# Altium schematic symbol library WE-TVSP.SchLib: 358 symbols (part 2 of 7)
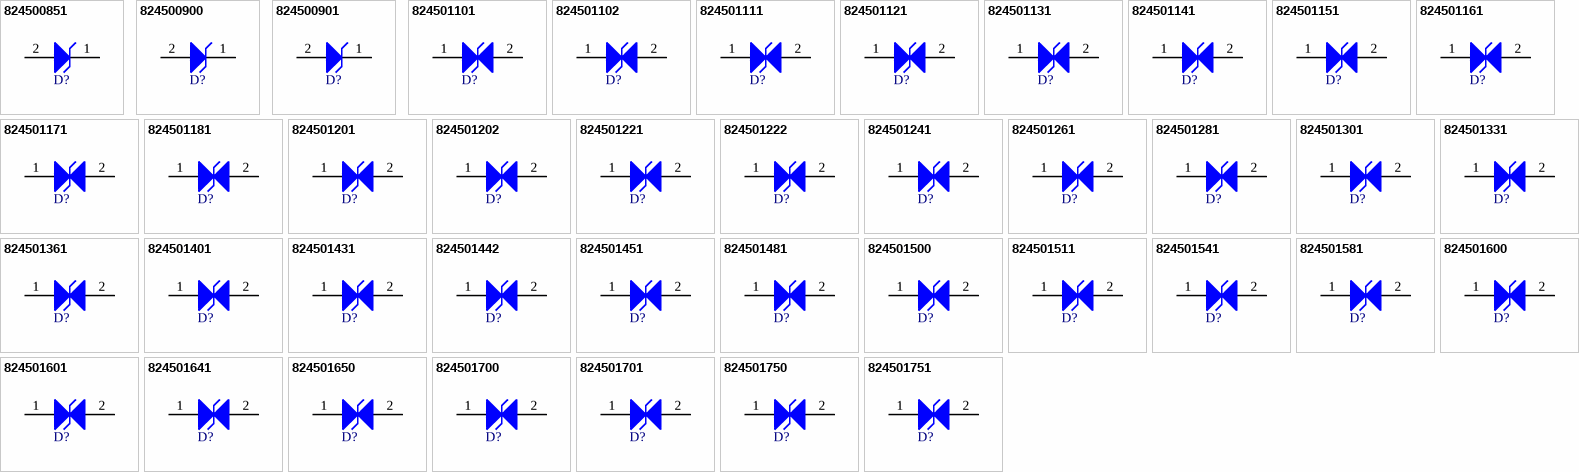
[diagram p9: symbols 824500851 to 824501751]

## 824501202
designator D?, comment 400W, 200VDC  (value not drawn)
WE-TVSP SMT Power TVS Diode, DO-214AC, Bidirectional, 400W, 200VDC; Manufacturer Part Number: 824501202; Manufacturer: Wurth Elektronik; Clamping Voltage: 324V; Operating Voltage (DC): 200V; (Reverse) Breakdown Voltage: 235.5V; (Reverse) Peak Pulse Current: 1.2A; ComponentLink1Description: Website Link; ComponentLink1URL: https://www.we-online.com/redexpert/article/824501202?ad; ComponentLink2Description: Datasheet Link; ComponentLink2URL: https://www.we-online.com/redexpert/spec/824501202?ad; Category: Surge Protection; Match Code: WE-TVSP; Mount: Surface Mount; Operating Temperature Max: 150°C; Operating Temperature Min: -65°C; Packaging: Tape and Reel; Case/Size Code: DO-214AC; Length: 4.24mm; Width: 2.67mm; Height: 2.25mm; Polarity: Bidirectional; Power Dissipation: 400W
footprint WE-TVSP_DO-214AC_Bidirectional
pins: 1, 2

## 824501221
designator D?, comment 400W, 22VDC  (value not drawn)
WE-TVSP SMT Power TVS Diode, DO-214AC, Bidirectional, 400W, 22VDC; Manufacturer Part Number: 824501221; Manufacturer: Wurth Elektronik; Clamping Voltage: 35.5V; Operating Voltage (DC): 22V; (Reverse) Breakdown Voltage: 25.65V; (Reverse) Peak Pulse Current: 11.3A; ComponentLink1Description: Website Link; ComponentLink1URL: https://www.we-online.com/redexpert/article/824501221?ad; ComponentLink2Description: Datasheet Link; ComponentLink2URL: https://www.we-online.com/redexpert/spec/824501221?ad; Category: Surge Protection; Match Code: WE-TVSP; Mount: Surface Mount; Operating Temperature Max: 150°C; Operating Temperature Min: -65°C; Packaging: Tape and Reel; Case/Size Code: DO-214AC; Length: 4.24mm; Width: 2.67mm; Height: 2.25mm; Polarity: Bidirectional; Power Dissipation: 400W
footprint WE-TVSP_DO-214AC_Bidirectional
pins: 1, 2

## 824501222
designator D?, comment 400W, 220VDC  (value not drawn)
WE-TVSP SMT Power TVS Diode, DO-214AC, Bidirectional, 400W, 220VDC; Manufacturer Part Number: 824501222; Manufacturer: Wurth Elektronik; Clamping Voltage: 356V; Operating Voltage (DC): 220V; (Reverse) Breakdown Voltage: 259V; (Reverse) Peak Pulse Current: 1.1A; ComponentLink1Description: Website Link; ComponentLink1URL: https://www.we-online.com/redexpert/article/824501222?ad; ComponentLink2Description: Datasheet Link; ComponentLink2URL: https://www.we-online.com/redexpert/spec/824501222?ad; Category: Surge Protection; Match Code: WE-TVSP; Mount: Surface Mount; Operating Temperature Max: 150°C; Operating Temperature Min: -65°C; Packaging: Tape and Reel; Case/Size Code: DO-214AC; Length: 4.24mm; Width: 2.67mm; Height: 2.25mm; Polarity: Bidirectional; Power Dissipation: 400W
footprint WE-TVSP_DO-214AC_Bidirectional
pins: 1, 2

## 824501241
designator D?, comment 400W, 24VDC  (value not drawn)
WE-TVSP SMT Power TVS Diode, DO-214AC, Bidirectional, 400W, 24VDC; Manufacturer Part Number: 824501241; Manufacturer: Wurth Elektronik; Clamping Voltage: 38.9V; Operating Voltage (DC): 24V; (Reverse) Breakdown Voltage: 28.1V; (Reverse) Peak Pulse Current: 10.3A; ComponentLink1Description: Website Link; ComponentLink1URL: https://www.we-online.com/redexpert/article/824501241?ad; ComponentLink2Description: Datasheet Link; ComponentLink2URL: https://www.we-online.com/redexpert/spec/824501241?ad; Category: Surge Protection; Match Code: WE-TVSP; Mount: Surface Mount; Operating Temperature Max: 150°C; Operating Temperature Min: -65°C; Packaging: Tape and Reel; Case/Size Code: DO-214AC; Length: 4.24mm; Width: 2.67mm; Height: 2.25mm; Polarity: Bidirectional; Power Dissipation: 400W
footprint WE-TVSP_DO-214AC_Bidirectional
pins: 1, 2

## 824501261
designator D?, comment 400W, 26VDC  (value not drawn)
WE-TVSP SMT Power TVS Diode, DO-214AC, Bidirectional, 400W, 26VDC; Manufacturer Part Number: 824501261; Manufacturer: Wurth Elektronik; Clamping Voltage: 42.1V; Operating Voltage (DC): 26V; (Reverse) Breakdown Voltage: 30.4V; (Reverse) Peak Pulse Current: 9.5A; ComponentLink1Description: Website Link; ComponentLink1URL: https://www.we-online.com/redexpert/article/824501261?ad; ComponentLink2Description: Datasheet Link; ComponentLink2URL: https://www.we-online.com/redexpert/spec/824501261?ad; Category: Surge Protection; Match Code: WE-TVSP; Mount: Surface Mount; Operating Temperature Max: 150°C; Operating Temperature Min: -65°C; Packaging: Tape and Reel; Case/Size Code: DO-214AC; Length: 4.24mm; Width: 2.67mm; Height: 2.25mm; Polarity: Bidirectional; Power Dissipation: 400W
footprint WE-TVSP_DO-214AC_Bidirectional
pins: 1, 2

## 824501281
designator D?, comment 400W, 28VDC  (value not drawn)
WE-TVSP SMT Power TVS Diode, DO-214AC, Bidirectional, 400W, 28VDC; Manufacturer Part Number: 824501281; Manufacturer: Wurth Elektronik; Clamping Voltage: 45.4V; Operating Voltage (DC): 28V; (Reverse) Breakdown Voltage: 32.75V; (Reverse) Peak Pulse Current: 8.8A; ComponentLink1Description: Website Link; ComponentLink1URL: https://www.we-online.com/redexpert/article/824501281?ad; ComponentLink2Description: Datasheet Link; ComponentLink2URL: https://www.we-online.com/redexpert/spec/824501281?ad; Category: Surge Protection; Match Code: WE-TVSP; Mount: Surface Mount; Operating Temperature Max: 150°C; Operating Temperature Min: -65°C; Packaging: Tape and Reel; Case/Size Code: DO-214AC; Length: 4.24mm; Width: 2.67mm; Height: 2.25mm; Polarity: Bidirectional; Power Dissipation: 400W
footprint WE-TVSP_DO-214AC_Bidirectional
pins: 1, 2

## 824501301
designator D?, comment 400W, 30VDC  (value not drawn)
WE-TVSP SMT Power TVS Diode, DO-214AC, Bidirectional, 400W, 30VDC; Manufacturer Part Number: 824501301; Manufacturer: Wurth Elektronik; Clamping Voltage: 48.4V; Operating Voltage (DC): 30V; (Reverse) Breakdown Voltage: 35.05V; (Reverse) Peak Pulse Current: 8.3A; ComponentLink1Description: Website Link; ComponentLink1URL: https://www.we-online.com/redexpert/article/824501301?ad; ComponentLink2Description: Datasheet Link; ComponentLink2URL: https://www.we-online.com/redexpert/spec/824501301?ad; Category: Surge Protection; Match Code: WE-TVSP; Mount: Surface Mount; Operating Temperature Max: 150°C; Operating Temperature Min: -65°C; Packaging: Tape and Reel; Case/Size Code: DO-214AC; Length: 4.24mm; Width: 2.67mm; Height: 2.25mm; Polarity: Bidirectional; Power Dissipation: 400W
footprint WE-TVSP_DO-214AC_Bidirectional
pins: 1, 2

## 824501331
designator D?, comment 400W, 33VDC  (value not drawn)
WE-TVSP SMT Power TVS Diode, DO-214AC, Bidirectional, 400W, 33VDC; Manufacturer Part Number: 824501331; Manufacturer: Wurth Elektronik; Clamping Voltage: 53.3V; Operating Voltage (DC): 33V; (Reverse) Breakdown Voltage: 38.65V; (Reverse) Peak Pulse Current: 7.5A; ComponentLink1Description: Website Link; ComponentLink1URL: https://www.we-online.com/redexpert/article/824501331?ad; ComponentLink2Description: Datasheet Link; ComponentLink2URL: https://www.we-online.com/redexpert/spec/824501331?ad; Category: Surge Protection; Match Code: WE-TVSP; Mount: Surface Mount; Operating Temperature Max: 150°C; Operating Temperature Min: -65°C; Packaging: Tape and Reel; Case/Size Code: DO-214AC; Length: 4.24mm; Width: 2.67mm; Height: 2.25mm; Polarity: Bidirectional; Power Dissipation: 400W
footprint WE-TVSP_DO-214AC_Bidirectional
pins: 1, 2

## 824501361
designator D?, comment 400W, 36VDC  (value not drawn)
WE-TVSP SMT Power TVS Diode, DO-214AC, Bidirectional, 400W, 36VDC; Manufacturer Part Number: 824501361; Manufacturer: Wurth Elektronik; Clamping Voltage: 58.1V; Operating Voltage (DC): 36V; (Reverse) Breakdown Voltage: 42.1V; (Reverse) Peak Pulse Current: 6.9A; ComponentLink1Description: Website Link; ComponentLink1URL: https://www.we-online.com/redexpert/article/824501361?ad; ComponentLink2Description: Datasheet Link; ComponentLink2URL: https://www.we-online.com/redexpert/spec/824501361?ad; Category: Surge Protection; Match Code: WE-TVSP; Mount: Surface Mount; Operating Temperature Max: 150°C; Operating Temperature Min: -65°C; Packaging: Tape and Reel; Case/Size Code: DO-214AC; Length: 4.24mm; Width: 2.67mm; Height: 2.25mm; Polarity: Bidirectional; Power Dissipation: 400W
footprint WE-TVSP_DO-214AC_Bidirectional
pins: 1, 2

## 824501401
designator D?, comment 400W, 40VDC  (value not drawn)
WE-TVSP SMT Power TVS Diode, DO-214AC, Bidirectional, 400W, 40VDC; Manufacturer Part Number: 824501401; Manufacturer: Wurth Elektronik; Clamping Voltage: 64.5V; Operating Voltage (DC): 40V; (Reverse) Breakdown Voltage: 46.75V; (Reverse) Peak Pulse Current: 6.2A; ComponentLink1Description: Website Link; ComponentLink1URL: https://www.we-online.com/redexpert/article/824501401?ad; ComponentLink2Description: Datasheet Link; ComponentLink2URL: https://www.we-online.com/redexpert/spec/824501401?ad; Category: Surge Protection; Match Code: WE-TVSP; Mount: Surface Mount; Operating Temperature Max: 150°C; Operating Temperature Min: -65°C; Packaging: Tape and Reel; Case/Size Code: DO-214AC; Length: 4.24mm; Width: 2.67mm; Height: 2.25mm; Polarity: Bidirectional; Power Dissipation: 400W
footprint WE-TVSP_DO-214AC_Bidirectional
pins: 1, 2

## 824501431
designator D?, comment 400W, 43VDC  (value not drawn)
WE-TVSP SMT Power TVS Diode, DO-214AC, Bidirectional, 400W, 43VDC; Manufacturer Part Number: 824501431; Manufacturer: Wurth Elektronik; Clamping Voltage: 69.4V; Operating Voltage (DC): 43V; (Reverse) Breakdown Voltage: 50.3V; (Reverse) Peak Pulse Current: 5.8A; ComponentLink1Description: Website Link; ComponentLink1URL: https://www.we-online.com/redexpert/article/824501431?ad; ComponentLink2Description: Datasheet Link; ComponentLink2URL: https://www.we-online.com/redexpert/spec/824501431?ad; Category: Surge Protection; Match Code: WE-TVSP; Mount: Surface Mount; Operating Temperature Max: 150°C; Operating Temperature Min: -65°C; Packaging: Tape and Reel; Case/Size Code: DO-214AC; Length: 4.24mm; Width: 2.67mm; Height: 2.25mm; Polarity: Bidirectional; Power Dissipation: 400W
footprint WE-TVSP_DO-214AC_Bidirectional
pins: 1, 2

## 824501442
designator D?, comment 400W, 440VDC  (value not drawn)
WE-TVSP SMT Power TVS Diode, DO-214AC, Bidirectional, 400W, 440VDC; Manufacturer Part Number: 824501442; Manufacturer: Wurth Elektronik; Clamping Voltage: 713V; Operating Voltage (DC): 440V; (Reverse) Breakdown Voltage: 517.5V; (Reverse) Peak Pulse Current: 0.6A; ComponentLink1Description: Website Link; ComponentLink1URL: https://www.we-online.com/redexpert/article/824501442?ad; ComponentLink2Description: Datasheet Link; ComponentLink2URL: https://www.we-online.com/redexpert/spec/824501442?ad; Category: Surge Protection; Match Code: WE-TVSP; Mount: Surface Mount; Operating Temperature Max: 150°C; Operating Temperature Min: -65°C; Packaging: Tape and Reel; Case/Size Code: DO-214AC; Length: 4.24mm; Width: 2.67mm; Height: 2.25mm; Polarity: Bidirectional; Power Dissipation: 400W
footprint WE-TVSP_DO-214AC_Bidirectional
pins: 1, 2

## 824501451
designator D?, comment 400W, 45VDC  (value not drawn)
WE-TVSP SMT Power TVS Diode, DO-214AC, Bidirectional, 400W, 45VDC; Manufacturer Part Number: 824501451; Manufacturer: Wurth Elektronik; Clamping Voltage: 72.7V; Operating Voltage (DC): 45V; (Reverse) Breakdown Voltage: 52.65V; (Reverse) Peak Pulse Current: 5.5A; ComponentLink1Description: Website Link; ComponentLink1URL: https://www.we-online.com/redexpert/article/824501451?ad; ComponentLink2Description: Datasheet Link; ComponentLink2URL: https://www.we-online.com/redexpert/spec/824501451?ad; Category: Surge Protection; Match Code: WE-TVSP; Mount: Surface Mount; Operating Temperature Max: 150°C; Operating Temperature Min: -65°C; Packaging: Tape and Reel; Case/Size Code: DO-214AC; Length: 4.24mm; Width: 2.67mm; Height: 2.25mm; Polarity: Bidirectional; Power Dissipation: 400W
footprint WE-TVSP_DO-214AC_Bidirectional
pins: 1, 2

## 824501481
designator D?, comment 400W, 48VDC  (value not drawn)
WE-TVSP SMT Power TVS Diode, DO-214AC, Bidirectional, 400W, 48VDC; Manufacturer Part Number: 824501481; Manufacturer: Wurth Elektronik; Clamping Voltage: 77.4V; Operating Voltage (DC): 48V; (Reverse) Breakdown Voltage: 56.1V; (Reverse) Peak Pulse Current: 5.2A; ComponentLink1Description: Website Link; ComponentLink1URL: https://www.we-online.com/redexpert/article/824501481?ad; ComponentLink2Description: Datasheet Link; ComponentLink2URL: https://www.we-online.com/redexpert/spec/824501481?ad; Category: Surge Protection; Match Code: WE-TVSP; Mount: Surface Mount; Operating Temperature Max: 150°C; Operating Temperature Min: -65°C; Packaging: Tape and Reel; Case/Size Code: DO-214AC; Length: 4.24mm; Width: 2.67mm; Height: 2.25mm; Polarity: Bidirectional; Power Dissipation: 400W
footprint WE-TVSP_DO-214AC_Bidirectional
pins: 1, 2

## 824501500
designator D?, comment 400W, 5VDC  (value not drawn)
WE-TVSP SMT Power TVS Diode, DO-214AC, Bidirectional, 400W, 5VDC; Manufacturer Part Number: 824501500; Manufacturer: Wurth Elektronik; Clamping Voltage: 9.2V; Operating Voltage (DC): 5V; (Reverse) Breakdown Voltage: 6.7V; (Reverse) Peak Pulse Current: 43.5A; ComponentLink1Description: Website Link; ComponentLink1URL: https://www.we-online.com/redexpert/article/824501500?ad; ComponentLink2Description: Datasheet Link; ComponentLink2URL: https://www.we-online.com/redexpert/spec/824501500?ad; Category: Surge Protection; Match Code: WE-TVSP; Mount: Surface Mount; Operating Temperature Max: 150°C; Operating Temperature Min: -65°C; Packaging: Tape and Reel; Case/Size Code: DO-214AC; Length: 4.24mm; Width: 2.67mm; Height: 2.25mm; Polarity: Bidirectional; Power Dissipation: 400W
footprint WE-TVSP_DO-214AC_Bidirectional
pins: 1, 2

## 824501511
designator D?, comment 400W, 51VDC  (value not drawn)
WE-TVSP SMT Power TVS Diode, DO-214AC, Bidirectional, 400W, 51VDC; Manufacturer Part Number: 824501511; Manufacturer: Wurth Elektronik; Clamping Voltage: 82.4V; Operating Voltage (DC): 51V; (Reverse) Breakdown Voltage: 59.7V; (Reverse) Peak Pulse Current: 4.9A; ComponentLink1Description: Website Link; ComponentLink1URL: https://www.we-online.com/redexpert/article/824501511?ad; ComponentLink2Description: Datasheet Link; ComponentLink2URL: https://www.we-online.com/redexpert/spec/824501511?ad; Category: Surge Protection; Match Code: WE-TVSP; Mount: Surface Mount; Operating Temperature Max: 150°C; Operating Temperature Min: -65°C; Packaging: Tape and Reel; Case/Size Code: DO-214AC; Length: 4.24mm; Width: 2.67mm; Height: 2.25mm; Polarity: Bidirectional; Power Dissipation: 400W
footprint WE-TVSP_DO-214AC_Bidirectional
pins: 1, 2

## 824501541
designator D?, comment 400W, 54VDC  (value not drawn)
WE-TVSP SMT Power TVS Diode, DO-214AC, Bidirectional, 400W, 54VDC; Manufacturer Part Number: 824501541; Manufacturer: Wurth Elektronik; Clamping Voltage: 87.1V; Operating Voltage (DC): 54V; (Reverse) Breakdown Voltage: 63.15V; (Reverse) Peak Pulse Current: 4.6A; ComponentLink1Description: Website Link; ComponentLink1URL: https://www.we-online.com/redexpert/article/824501541?ad; ComponentLink2Description: Datasheet Link; ComponentLink2URL: https://www.we-online.com/redexpert/spec/824501541?ad; Category: Surge Protection; Match Code: WE-TVSP; Mount: Surface Mount; Operating Temperature Max: 150°C; Operating Temperature Min: -65°C; Packaging: Tape and Reel; Case/Size Code: DO-214AC; Length: 4.24mm; Width: 2.67mm; Height: 2.25mm; Polarity: Bidirectional; Power Dissipation: 400W
footprint WE-TVSP_DO-214AC_Bidirectional
pins: 1, 2

## 824501581
designator D?, comment 400W, 58VDC  (value not drawn)
WE-TVSP SMT Power TVS Diode, DO-214AC, Bidirectional, 400W, 58VDC; Manufacturer Part Number: 824501581; Manufacturer: Wurth Elektronik; Clamping Voltage: 93.6V; Operating Voltage (DC): 58V; (Reverse) Breakdown Voltage: 67.8V; (Reverse) Peak Pulse Current: 4.3A; ComponentLink1Description: Website Link; ComponentLink1URL: https://www.we-online.com/redexpert/article/824501581?ad; ComponentLink2Description: Datasheet Link; ComponentLink2URL: https://www.we-online.com/redexpert/spec/824501581?ad; Category: Surge Protection; Match Code: WE-TVSP; Mount: Surface Mount; Operating Temperature Max: 150°C; Operating Temperature Min: -65°C; Packaging: Tape and Reel; Case/Size Code: DO-214AC; Length: 4.24mm; Width: 2.67mm; Height: 2.25mm; Polarity: Bidirectional; Power Dissipation: 400W
footprint WE-TVSP_DO-214AC_Bidirectional
pins: 1, 2

## 824501600
designator D?, comment 400W, 6VDC  (value not drawn)
WE-TVSP SMT Power TVS Diode, DO-214AC, Bidirectional, 400W, 6VDC; Manufacturer Part Number: 824501600; Manufacturer: Wurth Elektronik; Clamping Voltage: 10.3V; Operating Voltage (DC): 6V; (Reverse) Breakdown Voltage: 7.02V; (Reverse) Peak Pulse Current: 38.8A; ComponentLink1Description: Website Link; ComponentLink1URL: https://www.we-online.com/redexpert/article/824501600?ad; ComponentLink2Description: Datasheet Link; ComponentLink2URL: https://www.we-online.com/redexpert/spec/824501600?ad; Category: Surge Protection; Match Code: WE-TVSP; Mount: Surface Mount; Operating Temperature Max: 150°C; Operating Temperature Min: -65°C; Packaging: Tape and Reel; Case/Size Code: DO-214AC; Length: 4.24mm; Width: 2.67mm; Height: 2.25mm; Polarity: Bidirectional; Power Dissipation: 400W
footprint WE-TVSP_DO-214AC_Bidirectional
pins: 1, 2

## 824501601
designator D?, comment 400W, 60VDC  (value not drawn)
WE-TVSP SMT Power TVS Diode, DO-214AC, Bidirectional, 400W, 60VDC; Manufacturer Part Number: 824501601; Manufacturer: Wurth Elektronik; Clamping Voltage: 96.8V; Operating Voltage (DC): 60V; (Reverse) Breakdown Voltage: 70.2V; (Reverse) Peak Pulse Current: 4.1A; ComponentLink1Description: Website Link; ComponentLink1URL: https://www.we-online.com/redexpert/article/824501601?ad; ComponentLink2Description: Datasheet Link; ComponentLink2URL: https://www.we-online.com/redexpert/spec/824501601?ad; Category: Surge Protection; Match Code: WE-TVSP; Mount: Surface Mount; Operating Temperature Max: 150°C; Operating Temperature Min: -65°C; Packaging: Tape and Reel; Case/Size Code: DO-214AC; Length: 4.24mm; Width: 2.67mm; Height: 2.25mm; Polarity: Bidirectional; Power Dissipation: 400W
footprint WE-TVSP_DO-214AC_Bidirectional
pins: 1, 2

## 824501641
designator D?, comment 400W, 64VDC  (value not drawn)
WE-TVSP SMT Power TVS Diode, DO-214AC, Bidirectional, 400W, 64VDC; Manufacturer Part Number: 824501641; Manufacturer: Wurth Elektronik; Clamping Voltage: 103V; Operating Voltage (DC): 64V; (Reverse) Breakdown Voltage: 74.85V; (Reverse) Peak Pulse Current: 3.9A; ComponentLink1Description: Website Link; ComponentLink1URL: https://www.we-online.com/redexpert/article/824501641?ad; ComponentLink2Description: Datasheet Link; ComponentLink2URL: https://www.we-online.com/redexpert/spec/824501641?ad; Category: Surge Protection; Match Code: WE-TVSP; Mount: Surface Mount; Operating Temperature Max: 150°C; Operating Temperature Min: -65°C; Packaging: Tape and Reel; Case/Size Code: DO-214AC; Length: 4.24mm; Width: 2.67mm; Height: 2.25mm; Polarity: Bidirectional; Power Dissipation: 400W
footprint WE-TVSP_DO-214AC_Bidirectional
pins: 1, 2

## 824501650
designator D?, comment 400W, 6.5VDC  (value not drawn)
WE-TVSP SMT Power TVS Diode, DO-214AC, Bidirectional, 400W, 6.5VDC; Manufacturer Part Number: 824501650; Manufacturer: Wurth Elektronik; Clamping Voltage: 11.2V; Operating Voltage (DC): 6.5V; (Reverse) Breakdown Voltage: 7.6V; (Reverse) Peak Pulse Current: 35.7A; ComponentLink1Description: Website Link; ComponentLink1URL: https://www.we-online.com/redexpert/article/824501650?ad; ComponentLink2Description: Datasheet Link; ComponentLink2URL: https://www.we-online.com/redexpert/spec/824501650?ad; Category: Surge Protection; Match Code: WE-TVSP; Mount: Surface Mount; Operating Temperature Max: 150°C; Operating Temperature Min: -65°C; Packaging: Tape and Reel; Case/Size Code: DO-214AC; Length: 4.24mm; Width: 2.67mm; Height: 2.25mm; Polarity: Bidirectional; Power Dissipation: 400W
footprint WE-TVSP_DO-214AC_Bidirectional
pins: 1, 2

## 824501700
designator D?, comment 400W, 7VDC  (value not drawn)
WE-TVSP SMT Power TVS Diode, DO-214AC, Bidirectional, 400W, 7VDC; Manufacturer Part Number: 824501700; Manufacturer: Wurth Elektronik; Clamping Voltage: 12V; Operating Voltage (DC): 7V; (Reverse) Breakdown Voltage: 8.19V; (Reverse) Peak Pulse Current: 33.3A; ComponentLink1Description: Website Link; ComponentLink1URL: https://www.we-online.com/redexpert/article/824501700?ad; ComponentLink2Description: Datasheet Link; ComponentLink2URL: https://www.we-online.com/redexpert/spec/824501700?ad; Category: Surge Protection; Match Code: WE-TVSP; Mount: Surface Mount; Operating Temperature Max: 150°C; Operating Temperature Min: -65°C; Packaging: Tape and Reel; Case/Size Code: DO-214AC; Length: 4.24mm; Width: 2.67mm; Height: 2.25mm; Polarity: Bidirectional; Power Dissipation: 400W
footprint WE-TVSP_DO-214AC_Bidirectional
pins: 1, 2

## 824501701
designator D?, comment 400W, 70VDC  (value not drawn)
WE-TVSP SMT Power TVS Diode, DO-214AC, Bidirectional, 400W, 70VDC; Manufacturer Part Number: 824501701; Manufacturer: Wurth Elektronik; Clamping Voltage: 113V; Operating Voltage (DC): 70V; (Reverse) Breakdown Voltage: 81.9V; (Reverse) Peak Pulse Current: 3.5A; ComponentLink1Description: Website Link; ComponentLink1URL: https://www.we-online.com/redexpert/article/824501701?ad; ComponentLink2Description: Datasheet Link; ComponentLink2URL: https://www.we-online.com/redexpert/spec/824501701?ad; Category: Surge Protection; Match Code: WE-TVSP; Mount: Surface Mount; Operating Temperature Max: 150°C; Operating Temperature Min: -65°C; Packaging: Tape and Reel; Case/Size Code: DO-214AC; Length: 4.24mm; Width: 2.67mm; Height: 2.25mm; Polarity: Bidirectional; Power Dissipation: 400W
footprint WE-TVSP_DO-214AC_Bidirectional
pins: 1, 2

## 824501750
designator D?, comment 400W, 7.5VDC  (value not drawn)
WE-TVSP SMT Power TVS Diode, DO-214AC, Bidirectional, 400W, 7.5VDC; Manufacturer Part Number: 824501750; Manufacturer: Wurth Elektronik; Clamping Voltage: 12.9V; Operating Voltage (DC): 7.5V; (Reverse) Breakdown Voltage: 8.77V; (Reverse) Peak Pulse Current: 31A; ComponentLink1Description: Website Link; ComponentLink1URL: https://www.we-online.com/redexpert/article/824501750?ad; ComponentLink2Description: Datasheet Link; ComponentLink2URL: https://www.we-online.com/redexpert/spec/824501750?ad; Category: Surge Protection; Match Code: WE-TVSP; Mount: Surface Mount; Operating Temperature Max: 150°C; Operating Temperature Min: -65°C; Packaging: Tape and Reel; Case/Size Code: DO-214AC; Length: 4.24mm; Width: 2.67mm; Height: 2.25mm; Polarity: Bidirectional; Power Dissipation: 400W
footprint WE-TVSP_DO-214AC_Bidirectional
pins: 1, 2

## 824501751
designator D?, comment 400W, 75VDC  (value not drawn)
WE-TVSP SMT Power TVS Diode, DO-214AC, Bidirectional, 400W, 75VDC; Manufacturer Part Number: 824501751; Manufacturer: Wurth Elektronik; Clamping Voltage: 121V; Operating Voltage (DC): 75V; (Reverse) Breakdown Voltage: 87.7V; (Reverse) Peak Pulse Current: 3.3A; ComponentLink1Description: Website Link; ComponentLink1URL: https://www.we-online.com/redexpert/article/824501751?ad; ComponentLink2Description: Datasheet Link; ComponentLink2URL: https://www.we-online.com/redexpert/spec/824501751?ad; Category: Surge Protection; Match Code: WE-TVSP; Mount: Surface Mount; Operating Temperature Max: 150°C; Operating Temperature Min: -65°C; Packaging: Tape and Reel; Case/Size Code: DO-214AC; Length: 4.24mm; Width: 2.67mm; Height: 2.25mm; Polarity: Bidirectional; Power Dissipation: 400W
footprint WE-TVSP_DO-214AC_Bidirectional
pins: 1, 2

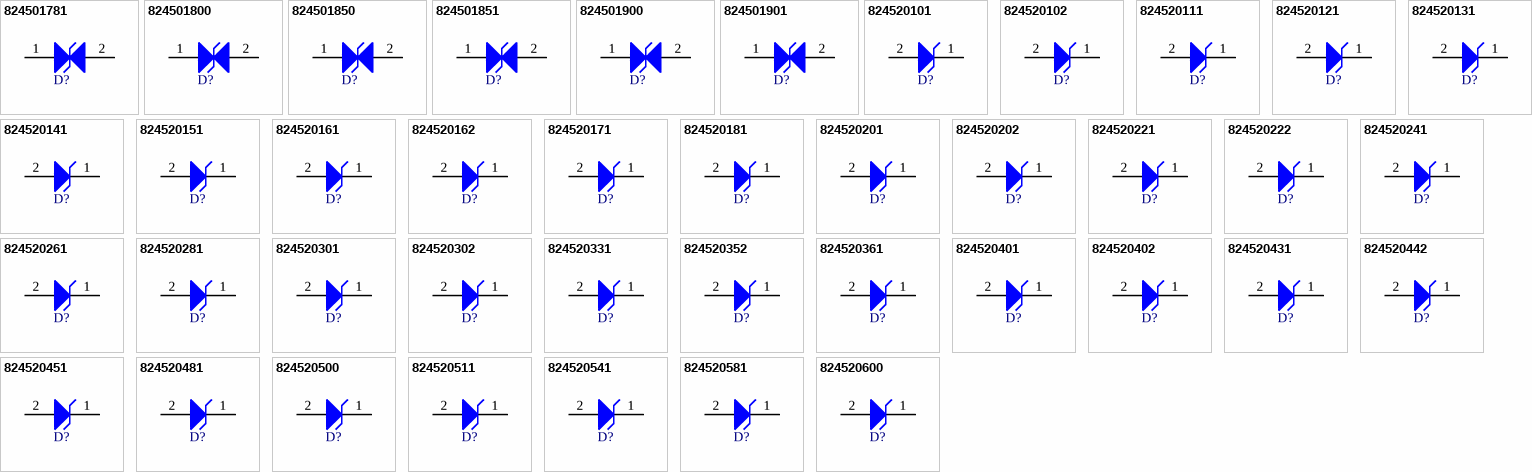
[diagram p2: symbols 824501781 to 824520600]

## 824501781
designator D?, comment 400W, 78VDC  (value not drawn)
WE-TVSP SMT Power TVS Diode, DO-214AC, Bidirectional, 400W, 78VDC; Manufacturer Part Number: 824501781; Manufacturer: Wurth Elektronik; Clamping Voltage: 126V; Operating Voltage (DC): 78V; (Reverse) Breakdown Voltage: 91.25V; (Reverse) Peak Pulse Current: 3.2A; ComponentLink1Description: Website Link; ComponentLink1URL: https://www.we-online.com/redexpert/article/824501781?ad; ComponentLink2Description: Datasheet Link; ComponentLink2URL: https://www.we-online.com/redexpert/spec/824501781?ad; Category: Surge Protection; Match Code: WE-TVSP; Mount: Surface Mount; Operating Temperature Max: 150°C; Operating Temperature Min: -65°C; Packaging: Tape and Reel; Case/Size Code: DO-214AC; Length: 4.24mm; Width: 2.67mm; Height: 2.25mm; Polarity: Bidirectional; Power Dissipation: 400W
footprint WE-TVSP_DO-214AC_Bidirectional
pins: 1, 2

## 824501800
designator D?, comment 400W, 8VDC  (value not drawn)
WE-TVSP SMT Power TVS Diode, DO-214AC, Bidirectional, 400W, 8VDC; Manufacturer Part Number: 824501800; Manufacturer: Wurth Elektronik; Clamping Voltage: 13.6V; Operating Voltage (DC): 8V; (Reverse) Breakdown Voltage: 9.36V; (Reverse) Peak Pulse Current: 29.4A; ComponentLink1Description: Website Link; ComponentLink1URL: https://www.we-online.com/redexpert/article/824501800?ad; ComponentLink2Description: Datasheet Link; ComponentLink2URL: https://www.we-online.com/redexpert/spec/824501800?ad; Category: Surge Protection; Match Code: WE-TVSP; Mount: Surface Mount; Operating Temperature Max: 150°C; Operating Temperature Min: -65°C; Packaging: Tape and Reel; Case/Size Code: DO-214AC; Length: 4.24mm; Width: 2.67mm; Height: 2.25mm; Polarity: Bidirectional; Power Dissipation: 400W
footprint WE-TVSP_DO-214AC_Bidirectional
pins: 1, 2

## 824501850
designator D?, comment 400W, 8.5VDC  (value not drawn)
WE-TVSP SMT Power TVS Diode, DO-214AC, Bidirectional, 400W, 8.5VDC; Manufacturer Part Number: 824501850; Manufacturer: Wurth Elektronik; Clamping Voltage: 14.4V; Operating Voltage (DC): 8.5V; (Reverse) Breakdown Voltage: 9.92V; (Reverse) Peak Pulse Current: 27.8A; ComponentLink1Description: Website Link; ComponentLink1URL: https://www.we-online.com/redexpert/article/824501850?ad; ComponentLink2Description: Datasheet Link; ComponentLink2URL: https://www.we-online.com/redexpert/spec/824501850?ad; Category: Surge Protection; Match Code: WE-TVSP; Mount: Surface Mount; Operating Temperature Max: 150°C; Operating Temperature Min: -65°C; Packaging: Tape and Reel; Case/Size Code: DO-214AC; Length: 4.24mm; Width: 2.67mm; Height: 2.25mm; Polarity: Bidirectional; Power Dissipation: 400W
footprint WE-TVSP_DO-214AC_Bidirectional
pins: 1, 2

## 824501851
designator D?, comment 400W, 85VDC  (value not drawn)
WE-TVSP SMT Power TVS Diode, DO-214AC, Bidirectional, 400W, 85VDC; Manufacturer Part Number: 824501851; Manufacturer: Wurth Elektronik; Clamping Voltage: 137V; Operating Voltage (DC): 85V; (Reverse) Breakdown Voltage: 99.2V; (Reverse) Peak Pulse Current: 2.9A; ComponentLink1Description: Website Link; ComponentLink1URL: https://www.we-online.com/redexpert/article/824501851?ad; ComponentLink2Description: Datasheet Link; ComponentLink2URL: https://www.we-online.com/redexpert/spec/824501851?ad; Category: Surge Protection; Match Code: WE-TVSP; Mount: Surface Mount; Operating Temperature Max: 150°C; Operating Temperature Min: -65°C; Packaging: Tape and Reel; Case/Size Code: DO-214AC; Length: 4.24mm; Width: 2.67mm; Height: 2.25mm; Polarity: Bidirectional; Power Dissipation: 400W
footprint WE-TVSP_DO-214AC_Bidirectional
pins: 1, 2

## 824501900
designator D?, comment 400W, 9VDC  (value not drawn)
WE-TVSP SMT Power TVS Diode, DO-214AC, Bidirectional, 400W, 9VDC; Manufacturer Part Number: 824501900; Manufacturer: Wurth Elektronik; Clamping Voltage: 15.4V; Operating Voltage (DC): 9V; (Reverse) Breakdown Voltage: 10.55V; (Reverse) Peak Pulse Current: 26A; ComponentLink1Description: Website Link; ComponentLink1URL: https://www.we-online.com/redexpert/article/824501900?ad; ComponentLink2Description: Datasheet Link; ComponentLink2URL: https://www.we-online.com/redexpert/spec/824501900?ad; Category: Surge Protection; Match Code: WE-TVSP; Mount: Surface Mount; Operating Temperature Max: 150°C; Operating Temperature Min: -65°C; Packaging: Tape and Reel; Case/Size Code: DO-214AC; Length: 4.24mm; Width: 2.67mm; Height: 2.25mm; Polarity: Bidirectional; Power Dissipation: 400W
footprint WE-TVSP_DO-214AC_Bidirectional
pins: 1, 2

## 824501901
designator D?, comment 400W, 90VDC  (value not drawn)
WE-TVSP SMT Power TVS Diode, DO-214AC, Bidirectional, 400W, 90VDC; Manufacturer Part Number: 824501901; Manufacturer: Wurth Elektronik; Clamping Voltage: 146V; Operating Voltage (DC): 90V; (Reverse) Breakdown Voltage: 105.5V; (Reverse) Peak Pulse Current: 2.7A; ComponentLink1Description: Website Link; ComponentLink1URL: https://www.we-online.com/redexpert/article/824501901?ad; ComponentLink2Description: Datasheet Link; ComponentLink2URL: https://www.we-online.com/redexpert/spec/824501901?ad; Category: Surge Protection; Match Code: WE-TVSP; Mount: Surface Mount; Operating Temperature Max: 150°C; Operating Temperature Min: -65°C; Packaging: Tape and Reel; Case/Size Code: DO-214AC; Length: 4.24mm; Width: 2.67mm; Height: 2.25mm; Polarity: Bidirectional; Power Dissipation: 400W
footprint WE-TVSP_DO-214AC_Bidirectional
pins: 1, 2

## 824520101
designator D?, comment 600W, 10VDC  (value not drawn)
WE-TVSP SMT Power TVS Diode, DO-214AA, Unidirectional, 600W, 10VDC; Manufacturer Part Number: 824520101; Manufacturer: Wurth Elektronik; Clamping Voltage: 17V; Operating Voltage (DC): 10V; (Reverse) Breakdown Voltage: 11.7V; (Reverse) Peak Pulse Current: 35.3A; ComponentLink1Description: Website Link; ComponentLink1URL: https://www.we-online.com/redexpert/article/824520101?ad; ComponentLink2Description: Datasheet Link; ComponentLink2URL: https://www.we-online.com/redexpert/spec/824520101?ad; Category: Surge Protection; Match Code: WE-TVSP; Mount: Surface Mount; Operating Temperature Max: 150°C; Operating Temperature Min: -65°C; Packaging: Tape and Reel; Case/Size Code: DO-214AA; Length: 4.32mm; Width: 3.62mm; Height: 2.4mm; Polarity: Unidirectional; Power Dissipation: 600W
footprint WE-TVSP_DO-214AA_Unidirectional
pins: 1 K, 2 A

## 824520102
designator D?, comment 600W, 100VDC  (value not drawn)
WE-TVSP SMT Power TVS Diode, DO-214AA, Unidirectional, 600W, 100VDC; Manufacturer Part Number: 824520102; Manufacturer: Wurth Elektronik; Clamping Voltage: 162V; Operating Voltage (DC): 100V; (Reverse) Breakdown Voltage: 117V; (Reverse) Peak Pulse Current: 3.7A; ComponentLink1Description: Website Link; ComponentLink1URL: https://www.we-online.com/redexpert/article/824520102?ad; ComponentLink2Description: Datasheet Link; ComponentLink2URL: https://www.we-online.com/redexpert/spec/824520102?ad; Category: Surge Protection; Match Code: WE-TVSP; Mount: Surface Mount; Operating Temperature Max: 150°C; Operating Temperature Min: -65°C; Packaging: Tape and Reel; Case/Size Code: DO-214AA; Length: 4.32mm; Width: 3.62mm; Height: 2.4mm; Polarity: Unidirectional; Power Dissipation: 600W
footprint WE-TVSP_DO-214AA_Unidirectional
pins: 1 K, 2 A

## 824520111
designator D?, comment 600W, 11VDC  (value not drawn)
WE-TVSP SMT Power TVS Diode, DO-214AA, Unidirectional, 600W, 11VDC; Manufacturer Part Number: 824520111; Manufacturer: Wurth Elektronik; Clamping Voltage: 18.2V; Operating Voltage (DC): 11V; (Reverse) Breakdown Voltage: 12.85V; (Reverse) Peak Pulse Current: 33A; ComponentLink1Description: Website Link; ComponentLink1URL: https://www.we-online.com/redexpert/article/824520111?ad; ComponentLink2Description: Datasheet Link; ComponentLink2URL: https://www.we-online.com/redexpert/spec/824520111?ad; Category: Surge Protection; Match Code: WE-TVSP; Mount: Surface Mount; Operating Temperature Max: 150°C; Operating Temperature Min: -65°C; Packaging: Tape and Reel; Case/Size Code: DO-214AA; Length: 4.32mm; Width: 3.62mm; Height: 2.4mm; Polarity: Unidirectional; Power Dissipation: 600W
footprint WE-TVSP_DO-214AA_Unidirectional
pins: 1 K, 2 A

## 824520121
designator D?, comment 600W, 12VDC  (value not drawn)
WE-TVSP SMT Power TVS Diode, DO-214AA, Unidirectional, 600W, 12VDC; Manufacturer Part Number: 824520121; Manufacturer: Wurth Elektronik; Clamping Voltage: 19.9V; Operating Voltage (DC): 12V; (Reverse) Breakdown Voltage: 14V; (Reverse) Peak Pulse Current: 30.2A; ComponentLink1Description: Website Link; ComponentLink1URL: https://www.we-online.com/redexpert/article/824520121?ad; ComponentLink2Description: Datasheet Link; ComponentLink2URL: https://www.we-online.com/redexpert/spec/824520121?ad; Category: Surge Protection; Match Code: WE-TVSP; Mount: Surface Mount; Operating Temperature Max: 150°C; Operating Temperature Min: -65°C; Packaging: Tape and Reel; Case/Size Code: DO-214AA; Length: 4.32mm; Width: 3.62mm; Height: 2.4mm; Polarity: Unidirectional; Power Dissipation: 600W
footprint WE-TVSP_DO-214AA_Unidirectional
pins: 1 K, 2 A

## 824520131
designator D?, comment 600W, 13VDC  (value not drawn)
WE-TVSP SMT Power TVS Diode, DO-214AA, Unidirectional, 600W, 13VDC; Manufacturer Part Number: 824520131; Manufacturer: Wurth Elektronik; Clamping Voltage: 21.5V; Operating Voltage (DC): 13V; (Reverse) Breakdown Voltage: 15.15V; (Reverse) Peak Pulse Current: 28A; ComponentLink1Description: Website Link; ComponentLink1URL: https://www.we-online.com/redexpert/article/824520131?ad; ComponentLink2Description: Datasheet Link; ComponentLink2URL: https://www.we-online.com/redexpert/spec/824520131?ad; Category: Surge Protection; Match Code: WE-TVSP; Mount: Surface Mount; Operating Temperature Max: 150°C; Operating Temperature Min: -65°C; Packaging: Tape and Reel; Case/Size Code: DO-214AA; Length: 4.32mm; Width: 3.62mm; Height: 2.4mm; Polarity: Unidirectional; Power Dissipation: 600W
footprint WE-TVSP_DO-214AA_Unidirectional
pins: 1 K, 2 A

## 824520141
designator D?, comment 600W, 14VDC  (value not drawn)
WE-TVSP SMT Power TVS Diode, DO-214AA, Unidirectional, 600W, 14VDC; Manufacturer Part Number: 824520141; Manufacturer: Wurth Elektronik; Clamping Voltage: 23.2V; Operating Voltage (DC): 14V; (Reverse) Breakdown Voltage: 16.4V; (Reverse) Peak Pulse Current: 25.9A; ComponentLink1Description: Website Link; ComponentLink1URL: https://www.we-online.com/redexpert/article/824520141?ad; ComponentLink2Description: Datasheet Link; ComponentLink2URL: https://www.we-online.com/redexpert/spec/824520141?ad; Category: Surge Protection; Match Code: WE-TVSP; Mount: Surface Mount; Operating Temperature Max: 150°C; Operating Temperature Min: -65°C; Packaging: Tape and Reel; Case/Size Code: DO-214AA; Length: 4.32mm; Width: 3.62mm; Height: 2.4mm; Polarity: Unidirectional; Power Dissipation: 600W
footprint WE-TVSP_DO-214AA_Unidirectional
pins: 1 K, 2 A

## 824520151
designator D?, comment 600W, 15VDC  (value not drawn)
WE-TVSP SMT Power TVS Diode, DO-214AA, Unidirectional, 600W, 15VDC; Manufacturer Part Number: 824520151; Manufacturer: Wurth Elektronik; Clamping Voltage: 24.4V; Operating Voltage (DC): 15V; (Reverse) Breakdown Voltage: 17.6V; (Reverse) Peak Pulse Current: 24.6A; ComponentLink1Description: Website Link; ComponentLink1URL: https://www.we-online.com/redexpert/article/824520151?ad; ComponentLink2Description: Datasheet Link; ComponentLink2URL: https://www.we-online.com/redexpert/spec/824520151?ad; Category: Surge Protection; Match Code: WE-TVSP; Mount: Surface Mount; Operating Temperature Max: 150°C; Operating Temperature Min: -65°C; Packaging: Tape and Reel; Case/Size Code: DO-214AA; Length: 4.32mm; Width: 3.62mm; Height: 2.4mm; Polarity: Unidirectional; Power Dissipation: 600W
footprint WE-TVSP_DO-214AA_Unidirectional
pins: 1 K, 2 A

## 824520161
designator D?, comment 600W, 16VDC  (value not drawn)
WE-TVSP SMT Power TVS Diode, DO-214AA, Unidirectional, 600W, 16VDC; Manufacturer Part Number: 824520161; Manufacturer: Wurth Elektronik; Clamping Voltage: 26V; Operating Voltage (DC): 16V; (Reverse) Breakdown Voltage: 18.75V; (Reverse) Peak Pulse Current: 23.1A; ComponentLink1Description: Website Link; ComponentLink1URL: https://www.we-online.com/redexpert/article/824520161?ad; ComponentLink2Description: Datasheet Link; ComponentLink2URL: https://www.we-online.com/redexpert/spec/824520161?ad; Category: Surge Protection; Match Code: WE-TVSP; Mount: Surface Mount; Operating Temperature Max: 150°C; Operating Temperature Min: -65°C; Packaging: Tape and Reel; Case/Size Code: DO-214AA; Length: 4.32mm; Width: 3.62mm; Height: 2.4mm; Polarity: Unidirectional; Power Dissipation: 600W
footprint WE-TVSP_DO-214AA_Unidirectional
pins: 1 K, 2 A

## 824520162
designator D?, comment 600W, 160VDC  (value not drawn)
WE-TVSP SMT Power TVS Diode, DO-214AA, Unidirectional, 600W, 160VDC; Manufacturer Part Number: 824520162; Manufacturer: Wurth Elektronik; Clamping Voltage: 259V; Operating Voltage (DC): 160V; (Reverse) Breakdown Voltage: 187.5V; (Reverse) Peak Pulse Current: 2.3A; ComponentLink1Description: Website Link; ComponentLink1URL: https://www.we-online.com/redexpert/article/824520162?ad; ComponentLink2Description: Datasheet Link; ComponentLink2URL: https://www.we-online.com/redexpert/spec/824520162?ad; Category: Surge Protection; Match Code: WE-TVSP; Mount: Surface Mount; Operating Temperature Max: 150°C; Operating Temperature Min: -65°C; Packaging: Tape and Reel; Case/Size Code: DO-214AA; Length: 4.32mm; Width: 3.62mm; Height: 2.4mm; Polarity: Unidirectional; Power Dissipation: 600W
footprint WE-TVSP_DO-214AA_Unidirectional
pins: 1 K, 2 A

## 824520171
designator D?, comment 600W, 17VDC  (value not drawn)
WE-TVSP SMT Power TVS Diode, DO-214AA, Unidirectional, 600W, 17VDC; Manufacturer Part Number: 824520171; Manufacturer: Wurth Elektronik; Clamping Voltage: 27.6V; Operating Voltage (DC): 17V; (Reverse) Breakdown Voltage: 19.9V; (Reverse) Peak Pulse Current: 21.8A; ComponentLink1Description: Website Link; ComponentLink1URL: https://www.we-online.com/redexpert/article/824520171?ad; ComponentLink2Description: Datasheet Link; ComponentLink2URL: https://www.we-online.com/redexpert/spec/824520171?ad; Category: Surge Protection; Match Code: WE-TVSP; Mount: Surface Mount; Operating Temperature Max: 150°C; Operating Temperature Min: -65°C; Packaging: Tape and Reel; Case/Size Code: DO-214AA; Length: 4.32mm; Width: 3.62mm; Height: 2.4mm; Polarity: Unidirectional; Power Dissipation: 600W
footprint WE-TVSP_DO-214AA_Unidirectional
pins: 1 K, 2 A

## 824520181
designator D?, comment 600W, 18VDC  (value not drawn)
WE-TVSP SMT Power TVS Diode, DO-214AA, Unidirectional, 600W, 18VDC; Manufacturer Part Number: 824520181; Manufacturer: Wurth Elektronik; Clamping Voltage: 29.2V; Operating Voltage (DC): 18V; (Reverse) Breakdown Voltage: 21.05V; (Reverse) Peak Pulse Current: 20.6A; ComponentLink1Description: Website Link; ComponentLink1URL: https://www.we-online.com/redexpert/article/824520181?ad; ComponentLink2Description: Datasheet Link; ComponentLink2URL: https://www.we-online.com/redexpert/spec/824520181?ad; Category: Surge Protection; Match Code: WE-TVSP; Mount: Surface Mount; Operating Temperature Max: 150°C; Operating Temperature Min: -65°C; Packaging: Tape and Reel; Case/Size Code: DO-214AA; Length: 4.32mm; Width: 3.62mm; Height: 2.4mm; Polarity: Unidirectional; Power Dissipation: 600W
footprint WE-TVSP_DO-214AA_Unidirectional
pins: 1 K, 2 A

## 824520201
designator D?, comment 600W, 20VDC  (value not drawn)
WE-TVSP SMT Power TVS Diode, DO-214AA, Unidirectional, 600W, 20VDC; Manufacturer Part Number: 824520201; Manufacturer: Wurth Elektronik; Clamping Voltage: 32.4V; Operating Voltage (DC): 20V; (Reverse) Breakdown Voltage: 23.35V; (Reverse) Peak Pulse Current: 18.6A; ComponentLink1Description: Website Link; ComponentLink1URL: https://www.we-online.com/redexpert/article/824520201?ad; ComponentLink2Description: Datasheet Link; ComponentLink2URL: https://www.we-online.com/redexpert/spec/824520201?ad; Category: Surge Protection; Match Code: WE-TVSP; Mount: Surface Mount; Operating Temperature Max: 150°C; Operating Temperature Min: -65°C; Packaging: Tape and Reel; Case/Size Code: DO-214AA; Length: 4.32mm; Width: 3.62mm; Height: 2.4mm; Polarity: Unidirectional; Power Dissipation: 600W
footprint WE-TVSP_DO-214AA_Unidirectional
pins: 1 K, 2 A

## 824520202
designator D?, comment 600W, 200VDC  (value not drawn)
WE-TVSP SMT Power TVS Diode, DO-214AA, Unidirectional, 600W, 200VDC; Manufacturer Part Number: 824520202; Manufacturer: Wurth Elektronik; Clamping Voltage: 324V; Operating Voltage (DC): 200V; (Reverse) Breakdown Voltage: 235.5V; (Reverse) Peak Pulse Current: 1.9A; ComponentLink1Description: Website Link; ComponentLink1URL: https://www.we-online.com/redexpert/article/824520202?ad; ComponentLink2Description: Datasheet Link; ComponentLink2URL: https://www.we-online.com/redexpert/spec/824520202?ad; Category: Surge Protection; Match Code: WE-TVSP; Mount: Surface Mount; Operating Temperature Max: 150°C; Operating Temperature Min: -65°C; Packaging: Tape and Reel; Case/Size Code: DO-214AA; Length: 4.32mm; Width: 3.62mm; Height: 2.4mm; Polarity: Unidirectional; Power Dissipation: 600W
footprint WE-TVSP_DO-214AA_Unidirectional
pins: 1 K, 2 A

## 824520221
designator D?, comment 600W, 22VDC  (value not drawn)
WE-TVSP SMT Power TVS Diode, DO-214AA, Unidirectional, 600W, 22VDC; Manufacturer Part Number: 824520221; Manufacturer: Wurth Elektronik; Clamping Voltage: 35.5V; Operating Voltage (DC): 22V; (Reverse) Breakdown Voltage: 25.65V; (Reverse) Peak Pulse Current: 16.9A; ComponentLink1Description: Website Link; ComponentLink1URL: https://www.we-online.com/redexpert/article/824520221?ad; ComponentLink2Description: Datasheet Link; ComponentLink2URL: https://www.we-online.com/redexpert/spec/824520221?ad; Category: Surge Protection; Match Code: WE-TVSP; Mount: Surface Mount; Operating Temperature Max: 150°C; Operating Temperature Min: -65°C; Packaging: Tape and Reel; Case/Size Code: DO-214AA; Length: 4.32mm; Width: 3.62mm; Height: 2.4mm; Polarity: Unidirectional; Power Dissipation: 600W
footprint WE-TVSP_DO-214AA_Unidirectional
pins: 1 K, 2 A

## 824520222
designator D?, comment 600W, 220VDC  (value not drawn)
WE-TVSP SMT Power TVS Diode, DO-214AA, Unidirectional, 600W, 220VDC; Manufacturer Part Number: 824520222; Manufacturer: Wurth Elektronik; Clamping Voltage: 356V; Operating Voltage (DC): 220V; (Reverse) Breakdown Voltage: 259V; (Reverse) Peak Pulse Current: 1.7A; ComponentLink1Description: Website Link; ComponentLink1URL: https://www.we-online.com/redexpert/article/824520222?ad; ComponentLink2Description: Datasheet Link; ComponentLink2URL: https://www.we-online.com/redexpert/spec/824520222?ad; Category: Surge Protection; Match Code: WE-TVSP; Mount: Surface Mount; Operating Temperature Max: 150°C; Operating Temperature Min: -65°C; Packaging: Tape and Reel; Case/Size Code: DO-214AA; Length: 4.32mm; Width: 3.62mm; Height: 2.4mm; Polarity: Unidirectional; Power Dissipation: 600W
footprint WE-TVSP_DO-214AA_Unidirectional
pins: 1 K, 2 A

## 824520241
designator D?, comment 600W, 24VDC  (value not drawn)
WE-TVSP SMT Power TVS Diode, DO-214AA, Unidirectional, 600W, 24VDC; Manufacturer Part Number: 824520241; Manufacturer: Wurth Elektronik; Clamping Voltage: 38.9V; Operating Voltage (DC): 24V; (Reverse) Breakdown Voltage: 28.1V; (Reverse) Peak Pulse Current: 15.5A; ComponentLink1Description: Website Link; ComponentLink1URL: https://www.we-online.com/redexpert/article/824520241?ad; ComponentLink2Description: Datasheet Link; ComponentLink2URL: https://www.we-online.com/redexpert/spec/824520241?ad; Category: Surge Protection; Match Code: WE-TVSP; Mount: Surface Mount; Operating Temperature Max: 150°C; Operating Temperature Min: -65°C; Packaging: Tape and Reel; Case/Size Code: DO-214AA; Length: 4.32mm; Width: 3.62mm; Height: 2.4mm; Polarity: Unidirectional; Power Dissipation: 600W
footprint WE-TVSP_DO-214AA_Unidirectional
pins: 1 K, 2 A

## 824520261
designator D?, comment 600W, 26VDC  (value not drawn)
WE-TVSP SMT Power TVS Diode, DO-214AA, Unidirectional, 600W, 26VDC; Manufacturer Part Number: 824520261; Manufacturer: Wurth Elektronik; Clamping Voltage: 42.1V; Operating Voltage (DC): 26V; (Reverse) Breakdown Voltage: 30.4V; (Reverse) Peak Pulse Current: 14.3A; ComponentLink1Description: Website Link; ComponentLink1URL: https://www.we-online.com/redexpert/article/824520261?ad; ComponentLink2Description: Datasheet Link; ComponentLink2URL: https://www.we-online.com/redexpert/spec/824520261?ad; Category: Surge Protection; Match Code: WE-TVSP; Mount: Surface Mount; Operating Temperature Max: 150°C; Operating Temperature Min: -65°C; Packaging: Tape and Reel; Case/Size Code: DO-214AA; Length: 4.32mm; Width: 3.62mm; Height: 2.4mm; Polarity: Unidirectional; Power Dissipation: 600W
footprint WE-TVSP_DO-214AA_Unidirectional
pins: 1 K, 2 A

## 824520281
designator D?, comment 600W, 28VDC  (value not drawn)
WE-TVSP SMT Power TVS Diode, DO-214AA, Unidirectional, 600W, 28VDC; Manufacturer Part Number: 824520281; Manufacturer: Wurth Elektronik; Clamping Voltage: 45.4V; Operating Voltage (DC): 28V; (Reverse) Breakdown Voltage: 32.75V; (Reverse) Peak Pulse Current: 13.3A; ComponentLink1Description: Website Link; ComponentLink1URL: https://www.we-online.com/redexpert/article/824520281?ad; ComponentLink2Description: Datasheet Link; ComponentLink2URL: https://www.we-online.com/redexpert/spec/824520281?ad; Category: Surge Protection; Match Code: WE-TVSP; Mount: Surface Mount; Operating Temperature Max: 150°C; Operating Temperature Min: -65°C; Packaging: Tape and Reel; Case/Size Code: DO-214AA; Length: 4.32mm; Width: 3.62mm; Height: 2.4mm; Polarity: Unidirectional; Power Dissipation: 600W
footprint WE-TVSP_DO-214AA_Unidirectional
pins: 1 K, 2 A

## 824520301
designator D?, comment 600W, 30VDC  (value not drawn)
WE-TVSP SMT Power TVS Diode, DO-214AA, Unidirectional, 600W, 30VDC; Manufacturer Part Number: 824520301; Manufacturer: Wurth Elektronik; Clamping Voltage: 48.4V; Operating Voltage (DC): 30V; (Reverse) Breakdown Voltage: 35.05V; (Reverse) Peak Pulse Current: 12.4A; ComponentLink1Description: Website Link; ComponentLink1URL: https://www.we-online.com/redexpert/article/824520301?ad; ComponentLink2Description: Datasheet Link; ComponentLink2URL: https://www.we-online.com/redexpert/spec/824520301?ad; Category: Surge Protection; Match Code: WE-TVSP; Mount: Surface Mount; Operating Temperature Max: 150°C; Operating Temperature Min: -65°C; Packaging: Tape and Reel; Case/Size Code: DO-214AA; Length: 4.32mm; Width: 3.62mm; Height: 2.4mm; Polarity: Unidirectional; Power Dissipation: 600W
footprint WE-TVSP_DO-214AA_Unidirectional
pins: 1 K, 2 A

## 824520302
designator D?, comment 600W, 300VDC  (value not drawn)
WE-TVSP SMT Power TVS Diode, DO-214AA, Unidirectional, 600W, 300VDC; Manufacturer Part Number: 824520302; Manufacturer: Wurth Elektronik; Clamping Voltage: 486V; Operating Voltage (DC): 300V; (Reverse) Breakdown Voltage: 353V; (Reverse) Peak Pulse Current: 1.3A; ComponentLink1Description: Website Link; ComponentLink1URL: https://www.we-online.com/redexpert/article/824520302?ad; ComponentLink2Description: Datasheet Link; ComponentLink2URL: https://www.we-online.com/redexpert/spec/824520302?ad; Category: Surge Protection; Match Code: WE-TVSP; Mount: Surface Mount; Operating Temperature Max: 150°C; Operating Temperature Min: -65°C; Packaging: Tape and Reel; Case/Size Code: DO-214AA; Length: 4.32mm; Width: 3.62mm; Height: 2.4mm; Polarity: Unidirectional; Power Dissipation: 600W
footprint WE-TVSP_DO-214AA_Unidirectional
pins: 1 K, 2 A

## 824520331
designator D?, comment 600W, 33VDC  (value not drawn)
WE-TVSP SMT Power TVS Diode, DO-214AA, Unidirectional, 600W, 33VDC; Manufacturer Part Number: 824520331; Manufacturer: Wurth Elektronik; Clamping Voltage: 53.3V; Operating Voltage (DC): 33V; (Reverse) Breakdown Voltage: 38.65V; (Reverse) Peak Pulse Current: 11.3A; ComponentLink1Description: Website Link; ComponentLink1URL: https://www.we-online.com/redexpert/article/824520331?ad; ComponentLink2Description: Datasheet Link; ComponentLink2URL: https://www.we-online.com/redexpert/spec/824520331?ad; Category: Surge Protection; Match Code: WE-TVSP; Mount: Surface Mount; Operating Temperature Max: 150°C; Operating Temperature Min: -65°C; Packaging: Tape and Reel; Case/Size Code: DO-214AA; Length: 4.32mm; Width: 3.62mm; Height: 2.4mm; Polarity: Unidirectional; Power Dissipation: 600W
footprint WE-TVSP_DO-214AA_Unidirectional
pins: 1 K, 2 A

## 824520352
designator D?, comment 600W, 350VDC  (value not drawn)
WE-TVSP SMT Power TVS Diode, DO-214AA, Unidirectional, 600W, 350VDC; Manufacturer Part Number: 824520352; Manufacturer: Wurth Elektronik; Clamping Voltage: 567V; Operating Voltage (DC): 350V; (Reverse) Breakdown Voltage: 411.5V; (Reverse) Peak Pulse Current: 1.1A; ComponentLink1Description: Website Link; ComponentLink1URL: https://www.we-online.com/redexpert/article/824520352?ad; ComponentLink2Description: Datasheet Link; ComponentLink2URL: https://www.we-online.com/redexpert/spec/824520352?ad; Category: Surge Protection; Match Code: WE-TVSP; Mount: Surface Mount; Operating Temperature Max: 150°C; Operating Temperature Min: -65°C; Packaging: Tape and Reel; Case/Size Code: DO-214AA; Length: 4.32mm; Width: 3.62mm; Height: 2.4mm; Polarity: Unidirectional; Power Dissipation: 600W
footprint WE-TVSP_DO-214AA_Unidirectional
pins: 1 K, 2 A

## 824520361
designator D?, comment 600W, 36VDC  (value not drawn)
WE-TVSP SMT Power TVS Diode, DO-214AA, Unidirectional, 600W, 36VDC; Manufacturer Part Number: 824520361; Manufacturer: Wurth Elektronik; Clamping Voltage: 58.1V; Operating Voltage (DC): 36V; (Reverse) Breakdown Voltage: 42.1V; (Reverse) Peak Pulse Current: 10.4A; ComponentLink1Description: Website Link; ComponentLink1URL: https://www.we-online.com/redexpert/article/824520361?ad; ComponentLink2Description: Datasheet Link; ComponentLink2URL: https://www.we-online.com/redexpert/spec/824520361?ad; Category: Surge Protection; Match Code: WE-TVSP; Mount: Surface Mount; Operating Temperature Max: 150°C; Operating Temperature Min: -65°C; Packaging: Tape and Reel; Case/Size Code: DO-214AA; Length: 4.32mm; Width: 3.62mm; Height: 2.4mm; Polarity: Unidirectional; Power Dissipation: 600W
footprint WE-TVSP_DO-214AA_Unidirectional
pins: 1 K, 2 A